# Altium schematic symbol library ADV7282.Schlib: 2 symbols
Pins are listed as number, name and electrical type; pins without a type are passive.

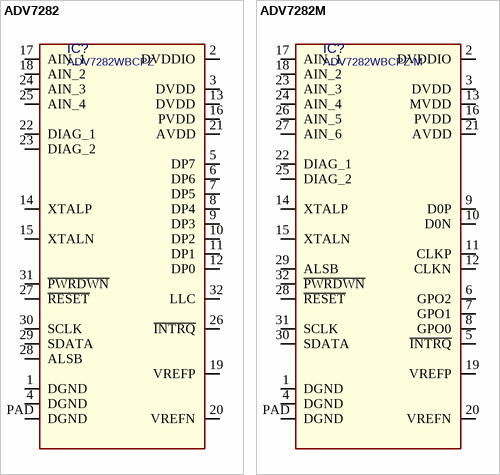
[diagram p0: symbols ADV7282 to ADV7282M]

## ADV7282
designator IC?, comment ADV7282WBCPZ
ID: ADV7282WBCPZ; BUY_LINK: http://www.digikey.com/product-detail/en/analog-devices-inc/ADV7282WBCPZ-RL/ADV7282WBCPZ-RL-ND/4901238; PDF: http://www.analog.com/static/imported-files/data_sheets/ADV7282.PDF
footprint LFCSP-32
pins: 1 DGND, 2 DVDDIO, 3 DVDD, 4 DGND, 5 DP7, 6 DP6, 7 DP5, 8 DP4, 9 DP3, 10 DP2, 11 DP1, 12 DP0, 13 DVDD, 14 XTALP, 15 XTALN, 16 PVDD, 17 AIN_1, 18 AIN_2, 19 VREFP, 20 VREFN, 21 AVDD, 22 DIAG_1, 23 DIAG_2, 24 AIN_3, 25 AIN_4, 26 ~{INTRQ}, 27 ~{RESET}, 28 ALSB, 29 SDATA, 30 SCLK, 31 ~{PWRDWN}, 32 LLC, PAD DGND

## ADV7282M
designator IC?, comment ADV7282WBCPZ-M
ID: ADV7282WBCPZ-M; BUY_LINK: http://www.digikey.com/product-detail/en/analog-devices-inc/ADV7282WBCPZ-M/ADV7282WBCPZ-M-ND/4494750; PDF: http://www.analog.com/static/imported-files/data_sheets/ADV7282.PDF
footprint LFCSP-32
pins: 1 DGND, 2 DVDDIO, 3 DVDD, 4 DGND, 5 ~{INTRQ}, 6 GPO2, 7 GPO1, 8 GPO0, 9 D0P, 10 D0N, 11 CLKP, 12 CLKN, 13 MVDD, 14 XTALP, 15 XTALN, 16 PVDD, 17 AIN_1, 18 AIN_2, 19 VREFP, 20 VREFN, 21 AVDD, 22 DIAG_1, 23 AIN_3, 24 AIN_4, 25 DIAG_2, 26 AIN_5, 27 AIN_6, 28 ~{RESET}, 29 ALSB, 30 SDATA, 31 SCLK, 32 ~{PWRDWN}, PAD DGND